# Altium footprint library CC1206_srh.PcbLib: 1 footprints
Each footprint in its own frame and in the unit in brackets; x right, y up, seen from the top. Pads: shape width x height; smd on the part's side, far side on the other; paste and mask are expansions set on the pad; w line width, h text height; cw(c..) or ccw(c..) is an arc to the next point about the centre after c.
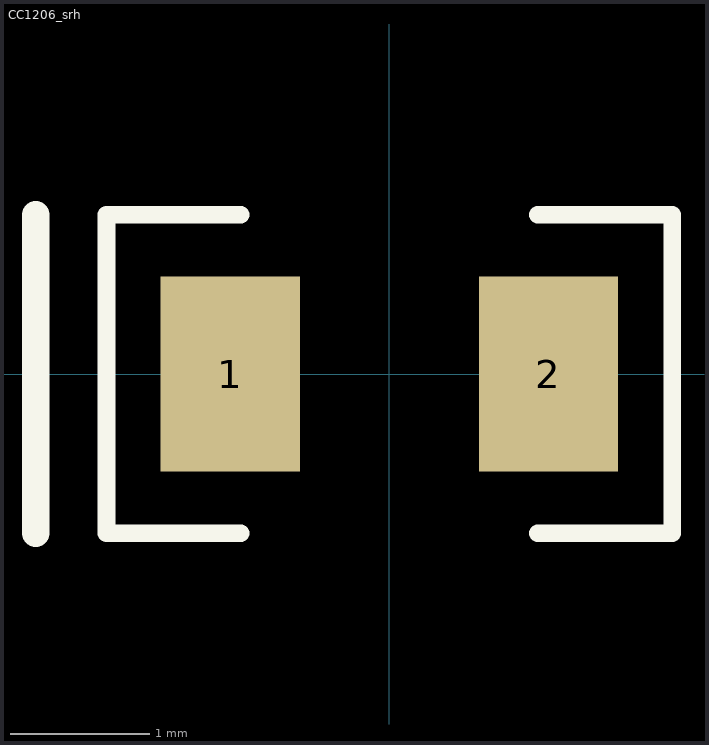
[diagram p0: the footprint, top view; thin cyan lines are the x and y axes]

## CC1206_srh [mm]
pads (2):
  rect 1x1.4 smd: 1(-1.143,0) 2(1.143,0)
Top Overlay:
  lines w0.127: -1.067,-1.143 -2.032,-1.143 -2.032,1.143 -1.067,1.143 ; 1.067,-1.143 2.032,-1.143 2.032,1.143 1.067,1.143
  lines w0.2: -2.54,-1.143 -2.54,1.143
3D body "CAP 1206.STEP": height 1.62, standoff 0, extent -1.6,-0.812 1.6,0.812